# Altium schematic symbol library Semiconductor.SchLib: 11 symbols
Pins are listed as number, name and electrical type; pins without a type are passive.

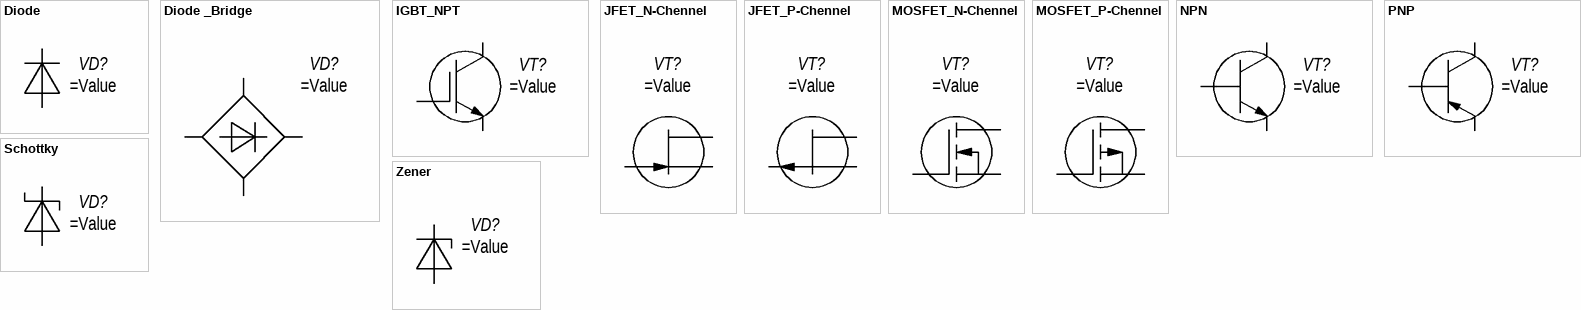
[diagram p0: symbols Diode to Zener]

## Diode
designator VD?  (value not drawn)
HelpURL: *; Manufacturer: *; Value: =Value
pins: 1, 2

## Diode _Bridge
designator VD?  (value not drawn)
HelpURL: *; Manufacturer: *; Value: =Value
pins: 1, 2, 3, 4

## IGBT_NPT
designator VT?  (value not drawn)
HelpURL: *; Manufacturer: *; Value: =Value
pins: B, C, E
1 alternate drawing of the same symbol

## JFET_N-Chennel
designator VT?  (value not drawn)
HelpURL: *; Manufacturer: *; Value: =Value
pins: D, G, S

## JFET_P-Chennel
designator VT?  (value not drawn)
HelpURL: *; Manufacturer: *; Value: =Value
pins: D, G, S

## MOSFET_N-Chennel
designator VT?  (value not drawn)
HelpURL: *; Manufacturer: *; Value: =Value
pins: D, G, S
1 alternate drawing of the same symbol

## MOSFET_P-Chennel
designator VT?  (value not drawn)
HelpURL: *; Manufacturer: *; Value: =Value
pins: D, G, S
1 alternate drawing of the same symbol

## NPN
designator VT?  (value not drawn)
HelpURL: *; Manufacturer: *; Value: =Value
footprint SOT-23; pin to pad B>1 C>3 E>2
pins: B, C, E

## PNP
designator VT?  (value not drawn)
HelpURL: *; Manufacturer: *; Value: =Value
footprint SOT-23; pin to pad B>1 C>3 E>2
pins: B, C, E

## Schottky
designator VD?  (value not drawn)
HelpURL: *; Manufacturer: *; Value: =Value
pins: 1, 2

## Zener
designator VD?  (value not drawn)
HelpURL: *; Manufacturer: *; Value: =Value
pins: 1, 2
1 alternate drawing of the same symbol